# EAGLE library part LM5010 (library Traficon)
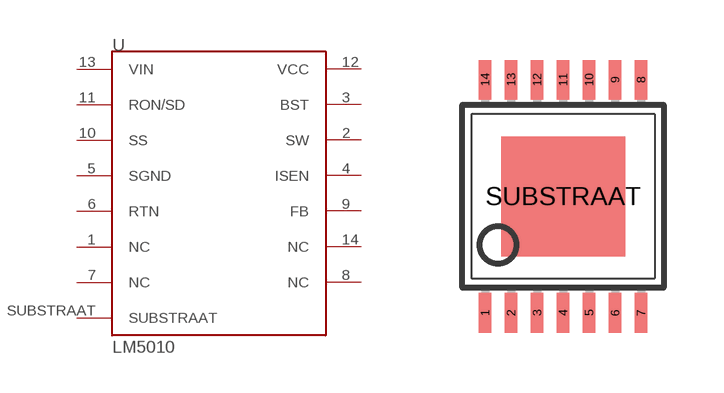
[diagram p119: symbol with the pads of TSSOP14A; footprint TSSOP14A]

Designator prefix U

## LM5010  [TSSOP14A]
1  NC
2  SW
3  BST
4  ISEN
5  SGND
6  RTN
7  NC
8  NC
9  FB
10  SS
11  RON/SD
12  VCC
13  VIN
14  NC
SUBSTRAAT  SUBSTRAAT  pas

## Footprint TSSOP14A (pad centres in mm)
smd 0.305 x 0.991: 1 -1.95,-2.918; 2 -1.3,-2.918; 3 -0.65,-2.918; 4 0,-2.918; 5 0.65,-2.918; 6 1.3,-2.918; 7 1.95,-2.918; 8 1.95,2.918; 9 1.3,2.918; 10 0.65,2.918; 11 0,2.918; 12 -0.65,2.918; 13 -1.3,2.918; 14 -1.95,2.918
smd 3.1 x 3: SUBSTRAAT 0,0